# Altium integrated library Logic_LevelTranslator.IntLib: 6 symbols
Pins are listed as number, name and electrical type; pins without a type are passive.

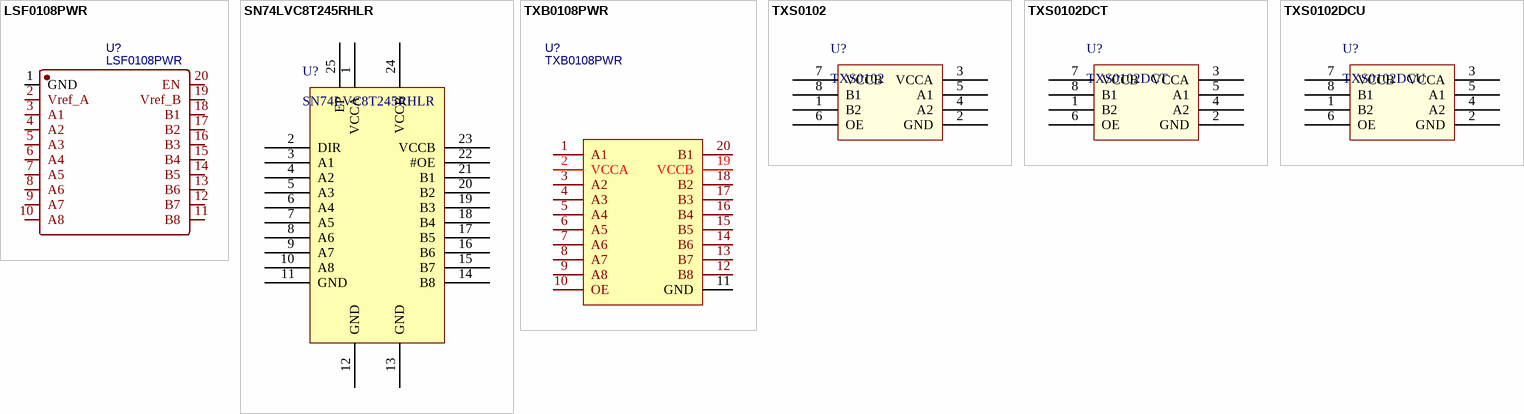
[diagram p0: symbols LSF0108PWR to TXS0102DCU]

## LSF0108PWR
designator U?
适用于开漏和推挽应用的 LSF010x 1/2/8 通道汽车双向多电压电平 转换器; BOM_Manufacturer: Texas Instruments; Contributor: LCSC; BOM_Supplier: LCSC; BOM_Supplier Part: C190219; BOM_Manufacturer Part: LSF0108PWR; BOM_JLCPCB Part Class: Extended Part; spicePre: U; spiceSymbolName: LSF0108PWR
footprint SSOP-20_4.4mm_P0.65mm (TSOP, 20-Leads, Body 6.50x4.40mm, Pitch 0.65mm, IPC Medium Density)
pins: 1 GND, 2 Vref_A, 3 A1, 4 A2, 5 A3, 6 A4, 7 A5, 8 A6, 9 A7, 10 A8, 11 B8, 12 B7, 13 B6, 14 B5, 15 B4, 16 B3, 17 B2, 18 B1, 19 Vref_B, 20 EN

## SN74LVC8T245RHLR
designator U?
SN74LVC8T245 8-Bit Dual-Supply Bus Transceiver With Configurable Voltage Translation and 3-State Outputs
footprint VQFN-24_1EP_5.5x3.5-P0.50mm_EP4x2mm
pins: 1 VCCA, 2 DIR, 3 A1, 4 A2, 5 A3, 6 A4, 7 A5, 8 A6, 9 A7, 10 A8, 11 GND, 12 GND, 13 GND, 14 B8, 15 B7, 16 B6, 17 B5, 18 B4, 19 B3, 20 B2, 21 B1, 22 #OE, 23 VCCB, 24 VCCB, 25 EP

## TXB0108PWR
designator U?
具有自动方向感应和 ±15kV ESD 保护功能的 TXB0108 8 位双向电压电平转换器; BOM_Manufacturer: TI; BOM_Supplier: LCSC; BOM_Manufacturer Part: TXB0108PWR; BOM_Supplier Part: C53406; BOM_JLCPCB Part Class: Extended Part; spicePre: U; spiceSymbolName: TXB0108PWR
footprint SSOP-20_4.4mm_P0.65mm (TSOP, 20-Leads, Body 6.50x4.40mm, Pitch 0.65mm, IPC Medium Density)
pins: 1 A1, 2 VCCA, 3 A2, 4 A3, 5 A4, 6 A5, 7 A6, 8 A7, 9 A8, 10 OE, 11 GND, 12 B8, 13 B7, 14 B6, 15 B5, 16 B4, 17 B3, 18 B2, 19 VCCB, 20 B1

## TXS0102
designator U?
适用于漏极开路和推挽应用的 TXS0102 2 位双向电压电平 转换器
footprint VSSOP-8_2.3x2.0mm_P0.5mm (TSSOP, 8-Leads, Body 2.00x2.30mm, Pitch 0.50mm, IPC Medium Density)
footprint SSOP-8_2.9x4mm_P0.65mm (TSOP, 8-Leads, Body 2.95x2.80mm, Pitch 0.65mm, IPC Medium Density)
pins: 1 B2, 2 GND, 3 VCCA, 4 A2, 5 A1, 6 OE, 7 VCCB, 8 B1

## TXS0102DCT
designator U?
适用于漏极开路和推挽应用的 TXS0102 2 位双向电压电平 转换器
footprint SSOP-8_2.9x4mm_P0.65mm (TSOP, 8-Leads, Body 2.95x2.80mm, Pitch 0.65mm, IPC Medium Density)
pins: 1 B2, 2 GND, 3 VCCA, 4 A2, 5 A1, 6 OE, 7 VCCB, 8 B1

## TXS0102DCU
designator U?
适用于漏极开路和推挽应用的 TXS0102 2 位双向电压电平 转换器
footprint VSSOP-8_2.3x2.0mm_P0.5mm (TSSOP, 8-Leads, Body 2.00x2.30mm, Pitch 0.50mm, IPC Medium Density)
pins: 1 B2, 2 GND, 3 VCCA, 4 A2, 5 A1, 6 OE, 7 VCCB, 8 B1